# EAGLE library part BU4053BC (library open-ephys)
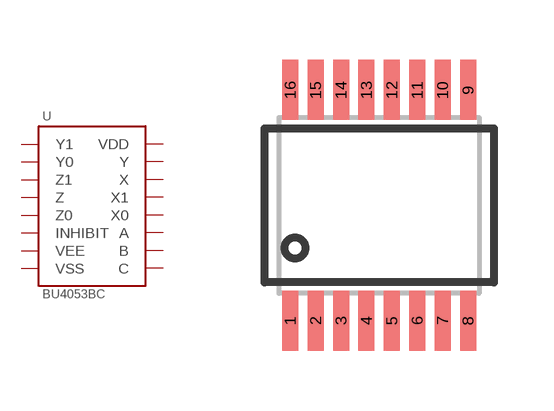
[diagram p18: symbol with the pads of SSOP16; footprint SSOP16]

Designator prefix -

## BU4053BC  [SSOP16]
1  Y1
2  Y0
3  Z1
4  Z
5  Z0
6  INHIBIT
7  VEE  pwr
8  VSS  pwr
9  C  pwr
10  B
11  A
12  X0
13  X1
14  X
15  Y
16  VDD  in

## Footprint SSOP16 (pad centres in mm)
Description: This footprint is untested! Used with the BU4551B.
smd 0.4 x 1.5: 1 -2.223,-2.883; 2 -1.587,-2.883; 3 -0.953,-2.883; 4 -0.318,-2.883; 5 0.318,-2.883; 6 0.953,-2.883; 7 1.587,-2.883; 8 2.223,-2.883; 9 2.223,2.883; 10 1.587,2.883; 11 0.953,2.883; 12 0.318,2.883; 13 -0.318,2.883; 14 -0.953,2.883; 15 -1.587,2.883; 16 -2.223,2.883